# Altium footprint library 696105003002.PcbLib: 1 footprints
Each footprint in its own frame and in the unit in brackets; x right, y up, seen from the top. Pads: shape width x height; smd on the part's side, far side on the other; paste and mask are expansions set on the pad; w line width, h text height; cw(c..) or ccw(c..) is an arc to the next point about the centre after c.
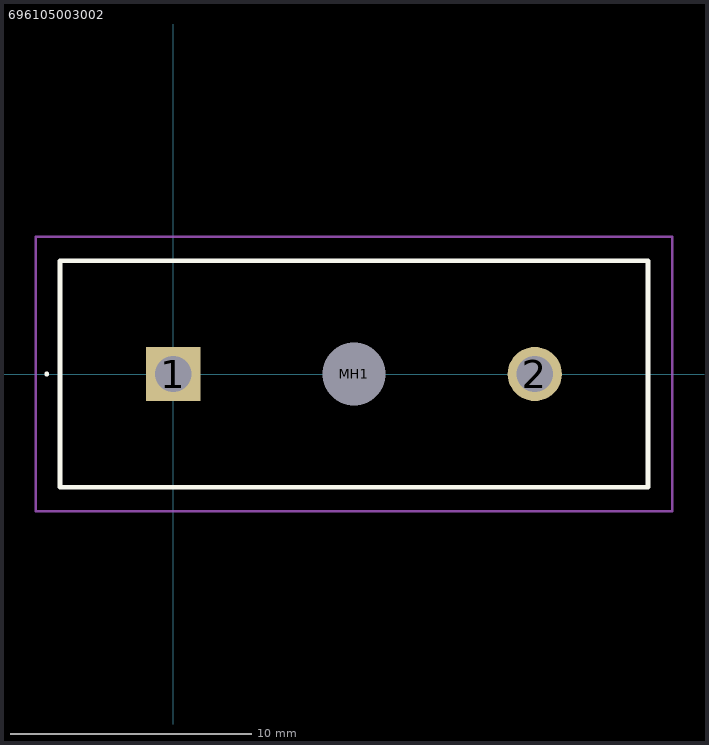
[diagram p0: the footprint, top view; thin cyan lines are the x and y axes]

## 696105003002 [mm]
pads (3):
  rect 2.25x2.25 hole 1.5: 1(0,0)
  round 2.25 hole 1.5: 2(15,0)
  round 1.3 hole 2.6 unplated: MH1(7.5,0)
Top Overlay:
  lines w0.1: -5.3,0 cw(c-5.25,0) -5.2,0 ; -5.3,0 -5.3,0 ; -5.3,0 ccw(c-5.25,0) -5.2,0 ; -5.2,0 -5.2,0
  lines w0.2: -4.7,-4.7 19.7,-4.7 19.7,4.7 -4.7,4.7 -4.7,-4.7
Mechanical 15:
  lines w0.1: -4.7,-4.7 19.7,-4.7 19.7,4.7 -4.7,4.7 -4.7,-4.7
Mechanical 20:
  lines w0.1: -5.7,-5.7 20.7,-5.7 20.7,5.7 -5.7,5.7 -5.7,-5.7
3D body "696105003002.stp": height 5.8, standoff -4.65, extent -10,-3.376 10,3.376